# EAGLE library part AT45DB321C-CN (library memory-atmel)
FLASH MEMORY
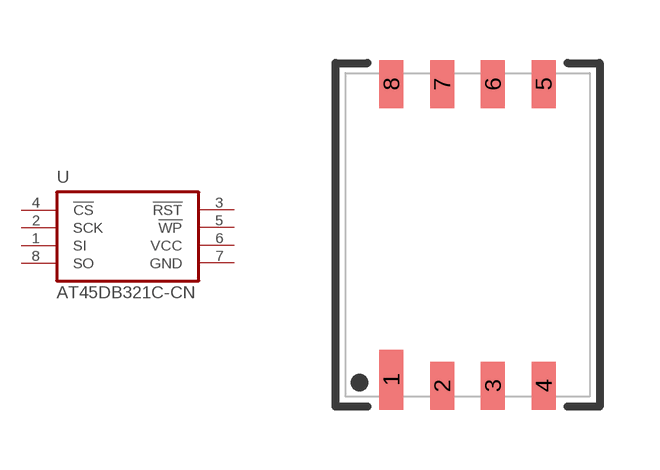
[diagram p16: symbol with the pads of CASON-8CN3; footprint CASON-8CN3]

Designator prefix U

## AT45DB321C-CN  [CASON-8CN3]
1  SI
2  SCK
3  !RST!
4  !CS!
5  !WP!
6  VCC  pwr
7  GND  pwr
8  SO

## Footprint CASON-8CN3 (pad centres in mm)
8CN3-CASON body 6 x 8 x 1.0 mm, Lead Pitch 1.27 mm
smd 0.6 x 1.5: 1 -1.905,-3.625
smd 0.6 x 1.2: 2 -0.635,-3.775; 3 0.635,-3.775; 4 1.905,-3.775; 5 1.905,3.775; 6 0.635,3.775; 7 -0.635,3.775; 8 -1.905,3.775